# EAGLE library part RJ11 (library con-tycoelectronics)
CORCOM Modular RJ Jacks No Shield Source: www.tycoelectronics.com .. ENG_DS_1654001_1099_RJ_L_0507.pdf
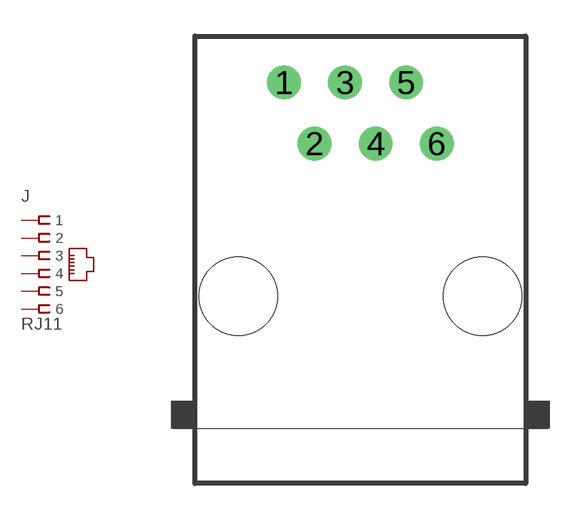
[diagram p0: symbol with the pads of RJ11-NO_SHIELD; footprint RJ11-NO_SHIELD]

Designator prefix J

## RJ11-2L-B, RJ11-2L-S, RJ11-2X, RJ11-4L-B, RJ11-4L-S, RJ11-4X, RJ11-6L-B, RJ11-6L-S, RJ11-6X  [RJ11-NO_SHIELD]
1  1  pas
2  2  pas
3  3  pas
4  4  pas
5  5  pas
6  6  pas

## Footprint RJ11-NO_SHIELD (pad centres in mm)
RJ11 Low Profile No Shield For all RJ11 N and Z Series Models Source: www.tycoelectronics.com .. ENG_DS_1654001_1099_RJ_L_0507.pdf
drill 0.9 pad 1.4 round: 1 -3.175,8.89; 2 -1.905,6.35; 3 -0.635,8.89; 4 0.635,6.35; 5 1.905,8.89; 6 3.175,6.35
hole 3.251 at -5.08,0
hole 3.251 at 5.08,0